# Altium footprint library PcbLib1.PcbLib: 218 footprints (part 11 of 14)
Each footprint in its own frame and in the unit in brackets; x right, y up, seen from the top. Pads: shape width x height; smd on the part's side, far side on the other; paste and mask are expansions set on the pad; w line width, h text height; cw(c..) or ccw(c..) is an arc to the next point about the centre after c.
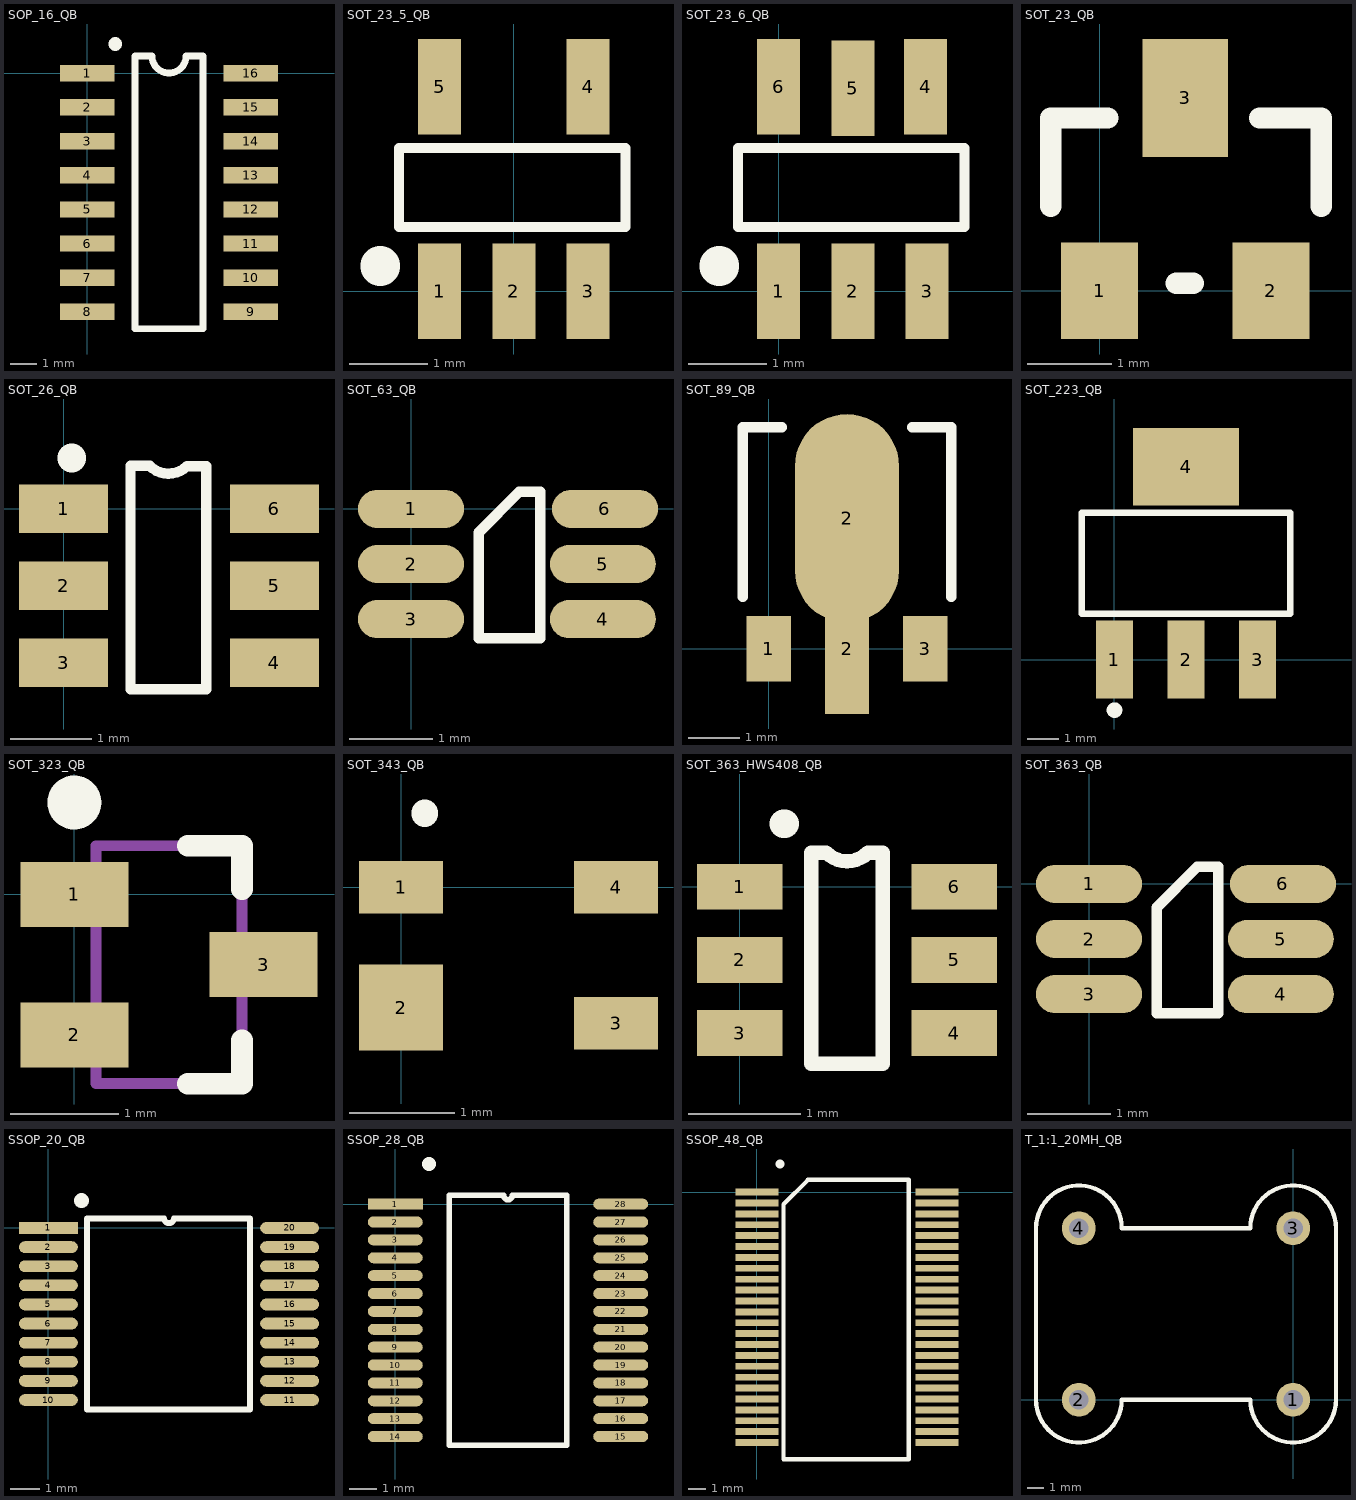
[diagram p10: the footprints below, top view; thin cyan lines are the x and y axes]

## SOP_16_QB [mil]
height 68.9
pads (16):
  rect 80x24 smd: 1(0,0) 2(0,-50) 3(0,-100) 4(0,-150) 5(0,-200) 6(0,-250) 7(0,-300) 8(0,-350) 9(240,-350) 10(240,-300) 11(240,-250) 12(240,-200) 13(240,-150) 14(240,-100) 15(240,-50) 16(240,0)
Top Overlay:
  lines w10: 70,-375 170,-375 170,25 145,25 cw(c120,25) 95,25 70,25 70,-375
  lines w19.68: 40.94,42.52 40.94,42.91
3D body: height 68.9, standoff 3.94, extent 32.48,-372.64 202.48,22.36
3D body: height 7.87, standoff 0, extent -25.47,-9.84 9.81,10.24
3D body: height 43.31, standoff 37.01, extent -0.23,-9.84 32.4,10.24
3D body: height 37.4, standoff 0, extent -0.23,-9.84 9.81,10.24
3D body: height 7.87, standoff 0, extent -25.35,-59.37 9.93,-39.29
3D body: height 43.31, standoff 37.01, extent -0.11,-59.37 32.52,-39.29
3D body: height 37.4, standoff 0, extent -0.11,-59.37 9.93,-39.29
3D body: height 7.87, standoff 0, extent -25.35,-109.76 9.93,-89.68
3D body: height 43.31, standoff 37.01, extent -0.11,-109.76 32.52,-89.68
3D body: height 37.4, standoff 0, extent -0.11,-109.76 9.93,-89.68
3D body: height 7.87, standoff 0, extent -25.39,-159.76 9.89,-139.68
3D body: height 43.31, standoff 37.01, extent -0.15,-159.76 32.48,-139.68
3D body: height 37.4, standoff 0, extent -0.15,-159.76 9.89,-139.68
3D body: height 7.87, standoff 0, extent -25.43,-209.53 9.85,-189.45
3D body: height 43.31, standoff 37.01, extent -0.19,-209.53 32.44,-189.45
3D body: height 37.4, standoff 0, extent -0.19,-209.53 9.85,-189.45
3D body: height 7.87, standoff 0, extent -25.35,-259.8 9.93,-239.72
3D body: height 43.31, standoff 37.01, extent -0.11,-259.8 32.52,-239.72
3D body: height 37.4, standoff 0, extent -0.11,-259.8 9.93,-239.72
3D body: height 7.87, standoff 0, extent -25.35,-309.88 9.93,-289.8
3D body: height 43.31, standoff 37.01, extent -0.11,-309.88 32.52,-289.8
3D body: height 37.4, standoff 0, extent -0.11,-309.88 9.93,-289.8
3D body: height 7.87, standoff 0, extent -25.43,-360.04 9.85,-339.96
3D body: height 43.31, standoff 37.01, extent -0.19,-360.04 32.44,-339.96
3D body: height 37.4, standoff 0, extent -0.19,-360.04 9.85,-339.96
3D body: height 7.87, standoff 0, extent 225.03,-9.65 260.31,10.43
3D body: height 43.31, standoff 37.01, extent 202.44,-9.65 235.07,10.43
3D body: height 37.4, standoff 0, extent 225.03,-9.65 235.07,10.43
3D body: height 7.87, standoff 0, extent 224.91,-59.69 260.2,-39.61
3D body: height 43.31, standoff 37.01, extent 202.32,-59.69 234.95,-39.61
3D body: height 37.4, standoff 0, extent 224.91,-59.69 234.95,-39.61
3D body: height 7.87, standoff 0, extent 224.99,-109.69 260.28,-89.61
3D body: height 43.31, standoff 37.01, extent 202.4,-109.69 235.03,-89.61
3D body: height 37.4, standoff 0, extent 224.99,-109.69 235.03,-89.61
3D body: height 7.87, standoff 0, extent 225.11,-159.72 260.39,-139.65
3D body: height 43.31, standoff 37.01, extent 202.52,-159.72 235.15,-139.65
3D body: height 37.4, standoff 0, extent 225.11,-159.72 235.15,-139.65
3D body: height 7.87, standoff 0, extent 225.11,-210 260.39,-189.92
3D body: height 43.31, standoff 37.01, extent 202.52,-210 235.15,-189.92
3D body: height 37.4, standoff 0, extent 225.11,-210 235.15,-189.92
3D body: height 7.87, standoff 0, extent 225.07,-259.8 260.35,-239.72
3D body: height 43.31, standoff 37.01, extent 202.48,-259.8 235.11,-239.72
3D body: height 37.4, standoff 0, extent 225.07,-259.8 235.11,-239.72
3D body: height 7.87, standoff 0, extent 224.91,-309.88 260.2,-289.8
3D body: height 43.31, standoff 37.01, extent 202.32,-309.88 234.95,-289.8
3D body: height 37.4, standoff 0, extent 224.91,-309.88 234.95,-289.8
3D body: height 7.87, standoff 0, extent 225.11,-360.12 260.39,-340.04
3D body: height 43.31, standoff 37.01, extent 202.52,-360.12 235.15,-340.04
3D body: height 37.4, standoff 0, extent 225.11,-360.12 235.15,-340.04

## SOT_23_5_QB [mm]
pads (5):
  rect 0.55x1.22 smd: 1(-0.95,0) 2(0,0) 3(0.95,0) 4(0.95,2.62) 5(-0.95,2.62)
Top Overlay:
  lines w0.127: -1.47,1.825 -1.47,0.825 1.43,0.825 1.43,1.825 ; -1.47,1.835 1.43,1.835
  lines w0.5: -1.71,0.32 -1.71,0.33
3D body: height 1, standoff 0.1, extent -1.47,0.55 1.43,2.05
3D body: height 0.5, standoff 0, extent -1.148,0.225 -0.773,0.4
3D body: height 0.1, standoff 0, extent -1.148,0.1 -0.773,0.4
3D body: height 0.6, standoff 0.48, extent -1.148,0.225 -0.773,0.55
3D body: height 0.5, standoff 0, extent -0.194,0.225 0.181,0.4
3D body: height 0.1, standoff 0, extent -0.194,0.1 0.181,0.4
3D body: height 0.6, standoff 0.48, extent -0.194,0.225 0.181,0.55
3D body: height 0.5, standoff 0, extent 0.78,0.225 1.155,0.4
3D body: height 0.1, standoff 0, extent 0.78,0.1 1.155,0.4
3D body: height 0.6, standoff 0.48, extent 0.78,0.225 1.155,0.55
3D body: height 0.5, standoff 0, extent -1.152,2.199 -0.777,2.374
3D body: height 0.1, standoff 0, extent -1.152,2.199 -0.777,2.499
3D body: height 0.6, standoff 0.48, extent -1.152,2.049 -0.777,2.374
3D body: height 0.5, standoff 0, extent 0.749,2.199 1.124,2.374
3D body: height 0.1, standoff 0, extent 0.749,2.199 1.124,2.499
3D body: height 0.6, standoff 0.48, extent 0.749,2.049 1.124,2.374

## SOT_23_6_QB [mm]
height 1
pads (6):
  rect 0.55x1.22 smd: 1(0,0) 2(0.95,0) 3(1.9,0) 4(1.88,2.62) 5(0.95,2.6) 6(0,2.62)
Top Overlay:
  lines w0.127: -0.52,1.825 -0.52,0.825 2.38,0.825 2.38,1.825 ; -0.52,1.835 2.38,1.835
  lines w0.5: -0.76,0.32 -0.76,0.33
3D body: height 1, standoff 0.1, extent -0.52,0.55 2.38,2.05
3D body: height 0.6, standoff 0.48, extent 1.699,2.049 2.074,2.374
3D body: height 0.1, standoff 0, extent 1.699,2.199 2.074,2.499
3D body: height 0.5, standoff 0, extent 1.699,2.199 2.074,2.374
3D body: height 0.6, standoff 0.48, extent -0.202,2.049 0.173,2.374
3D body: height 0.1, standoff 0, extent -0.202,2.199 0.173,2.499
3D body: height 0.5, standoff 0, extent -0.202,2.199 0.173,2.374
3D body: height 0.6, standoff 0.48, extent 1.73,0.225 2.105,0.55
3D body: height 0.1, standoff 0, extent 1.73,0.1 2.105,0.4
3D body: height 0.5, standoff 0, extent 1.73,0.225 2.105,0.4
3D body: height 0.6, standoff 0.48, extent 0.756,0.225 1.131,0.55
3D body: height 0.1, standoff 0, extent 0.756,0.1 1.131,0.4
3D body: height 0.5, standoff 0, extent 0.756,0.225 1.131,0.4
3D body: height 0.6, standoff 0.48, extent -0.198,0.225 0.177,0.55
3D body: height 0.1, standoff 0, extent -0.198,0.1 0.177,0.4
3D body: height 0.5, standoff 0, extent -0.198,0.225 0.177,0.4
3D body: height 0.5, standoff 0, extent 0.748,2.179 1.123,2.354
3D body: height 0.1, standoff 0, extent 0.748,2.179 1.123,2.479
3D body: height 0.6, standoff 0.48, extent 0.748,2.029 1.123,2.354

## SOT_23_QB [mil]
pads (3):
  rect 36x45 smd: 1(0,0) 2(80,0)
  rect 40x55 smd: 3(40,90)
Top Overlay:
  lines w10: -22.83,39.37 -22.83,80.63 3.94,80.63 ; 35.83,3.54 43.7,3.54 ; 74.8,80.63 103.54,80.63 103.54,39.37
3D body: height 15.75, standoff 0, extent 73.03,-9.84 88.39,11.02
3D body: height 15.75, standoff 0, extent 31.89,75.98 47.24,96.85
3D body: height 15.75, standoff 0, extent -8.27,-9.84 7.09,11.02
3D body: height 43.31, standoff 0, extent -17.87,10.98 97.48,75.98

## SOT_26_QB [mm]
height 1.45
pads (6):
  rect 1.1x0.6 smd: 1(0,0) 2(0,-0.95) 3(0,-1.9) 4(2.6,-1.9) 5(2.6,-0.95) 6(2.6,0)
Top Overlay:
  lines w0.127: 0.826,-2.228 0.826,0.531 1.061,0.531 ccw(c1.295,0.759) 1.523,0.525 1.758,0.525 1.758,-2.228 0.826,-2.228
  lines w0.35: 0.1,0.623 0.1,0.63
3D body: height 0.08, standoff 0, extent 2.223,-2.058 2.573,-1.758
3D body: height 0.6, standoff 0, extent 2.223,-2.058 2.373,-1.758
3D body: height 0.7, standoff 0.59, extent 2.048,-2.058 2.373,-1.758
3D body: height 0.08, standoff 0, extent 2.225,-1.105 2.575,-0.805
3D body: height 0.6, standoff 0, extent 2.225,-1.105 2.375,-0.805
3D body: height 0.7, standoff 0.59, extent 2.05,-1.105 2.375,-0.805
3D body: height 0.08, standoff 0, extent 2.226,-0.145 2.576,0.155
3D body: height 0.6, standoff 0, extent 2.226,-0.145 2.376,0.155
3D body: height 0.7, standoff 0.59, extent 2.051,-0.145 2.376,0.155
3D body: height 0.08, standoff 0, extent 0.024,-2.049 0.374,-1.749
3D body: height 0.6, standoff 0, extent 0.224,-2.049 0.374,-1.749
3D body: height 0.7, standoff 0.59, extent 0.224,-2.049 0.549,-1.748
3D body: height 0.08, standoff 0, extent 0.026,-1.091 0.376,-0.791
3D body: height 0.6, standoff 0, extent 0.226,-1.091 0.376,-0.791
3D body: height 0.7, standoff 0.59, extent 0.226,-1.091 0.551,-0.79
3D body: height 0.08, standoff 0, extent 0.024,-0.133 0.374,0.167
3D body: height 0.6, standoff 0, extent 0.224,-0.133 0.374,0.167
3D body: height 0.7, standoff 0.59, extent 0.224,-0.133 0.549,0.168
3D body: height 1.4, standoff 0.1, extent 0.55,-2.375 2.05,0.625

## SOT_63_QB [mil]
pads (6):
  oval 50x18 smd: 1(0,0) 2(0,-26) 3(0,-52) 4(90.43,-52) 5(90.43,-26) 6(91.43,0)
Top Overlay:
  lines w5: 31.87,-61.05 31.87,-11.13 51,8 61,8 61,-61.05 31.87,-61.05
3D body: height 11.81, standoff 0, extent 6.6,-5.9 31.4,5.91
3D body: height 11.81, standoff 0, extent 7.06,-32.43 31.87,-20.62
3D body: height 11.81, standoff 0, extent 6.6,-57.9 31.4,-46.09
3D body: height 11.81, standoff 0, extent 61,-58 85.8,-46.19
3D body: height 11.81, standoff 0, extent 61,-5.81 85.8,6
3D body: height 11.81, standoff 0, extent 61,-32.43 85.8,-20.62
3D body: height 39.37, standoff 0, extent 26.75,-67.87 66.12,14.81

## SOT_89_QB [mil]
pads (4):
  rect 34x50 smd: 1(0,0) 3(120,0)
  rect 34x100 smd: 2(60,0)
  oval 80x160 smd: 2(60,100)
Top Overlay:
  lines w8: -20,40 -20,170 10,170 ; 110,170 140,170 140,40
3D body: height 23.62, standoff 0, extent 15,130 105,175
3D body: height 62.99, standoff 0, extent -28.54,39.37 148.62,132.87
3D body: height 16.93, standoff 0, extent 109.25,-11.81 132.87,39.37
3D body: height 16.93, standoff 0, extent 48.23,-11.81 71.85,39.37
3D body: height 16.93, standoff 0, extent -13.78,-11.81 9.84,39.37

## SOT_223_QB [mm]
height 65
pads (4):
  rect 1.2x2.5 smd: 1(0,0) 2(2.3,0) 3(4.6,0)
  rect 3.4x2.5 smd: 4(2.3,6.2)
Top Overlay:
  circle w0.25: c0,-1.625 r0.125
  lines w0.2: -1.05,1.475 5.65,1.475 5.65,4.725 -1.05,4.725 -1.05,1.475
3D body: height 1.63, standoff 0, extent -0.95,1.55 5.56,4.62
3D body: height 0.6, standoff 0, extent 1.98,0.12 2.63,1.58
3D body: height 0.6, standoff 0, extent -0.32,0.1 0.33,1.56
3D body: height 0.6, standoff 0, extent 4.27,0.11 4.92,1.57
3D body: height 0.6, standoff 0, extent 1.07,4.6 3.43,6.06

## SOT_323_QB [mm]
pads (3):
  rect 1x0.6 smd: 1(0,0) 2(0,-1.3) 3(1.75,-0.65)
Top Overlay:
  circle w0.25: c0,0.85 r0.125
  lines w0.2: 1.05,-1.75 1.55,-1.75 1.55,-1.35 ; 1.05,0.45 1.55,0.45 1.55,0.05
Mechanical 13:
  lines w0.1: 0.2,-1.75 1.55,-1.75 1.55,0.45 0.2,0.45 0.2,-1.75
3D body: height 0.2, standoff 0, extent 1.358,-0.853 2.069,-0.447
3D body: height 0.2, standoff 0, extent -0.344,-1.488 0.367,-1.082
3D body: height 0.2, standoff 0, extent -0.319,-0.218 0.392,0.188
3D body: height 1.1, standoff 0, extent 0.2,-1.75 1.55,0.45

## SOT_343_QB [mm]
height 1
pads (4):
  rect 0.8x0.5 smd: 1(0,0) 3(2.05,-1.3) 4(2.05,0)
  rect 0.8x0.82 smd: 2(0,-1.15)
Top Overlay:
  lines w0.254: 0.225,0.7 0.225,0.71
3D body: height 1, standoff -0.05, extent 0.4,-1.675 1.65,0.375
3D body: height 0.45, standoff 0, extent 1.8,-0.15 1.9,0.15
3D body: height 0.6, standoff 0.45, extent 1.65,-0.15 1.9,0.15
3D body: height 0.12, standoff 0, extent 1.8,-0.15 2.05,0.15
3D body: height 0.12, standoff 0, extent 0,-0.15 0.25,0.15
3D body: height 0.45, standoff 0, extent 0.15,-0.15 0.25,0.15
3D body: height 0.6, standoff 0.45, extent 0.15,-0.15 0.4,0.15
3D body: height 0.12, standoff 0, extent 1.8,-1.45 2.05,-1.15
3D body: height 0.6, standoff 0.45, extent 1.65,-1.45 1.9,-1.15
3D body: height 0.45, standoff 0, extent 1.8,-1.45 1.9,-1.15
3D body: height 0.12, standoff 0, extent 0,-1.45 0.25,-1.15
3D body: height 0.45, standoff 0, extent 0.15,-1.45 0.25,-1.15
3D body: height 0.6, standoff 0.45, extent 0.15,-1.45 0.4,-1.15
3D body: height 0.12, standoff 0, extent 0,-1.15 0.25,-0.85
3D body: height 0.45, standoff 0, extent 0.15,-1.15 0.25,-0.85
3D body: height 0.6, standoff 0.45, extent 0.15,-1.15 0.4,-0.85

## SOT_363_HWS408_QB [mil]
height 47.24
pads (6):
  rect 30x16 smd: 1(0,0) 2(0,-25.59) 3(0,-51.18) 4(75,-51.18) 5(75,-25.59) 6(75,0)
Top Overlay:
  lines w5: 30.17,11.99 25,11.99 25,-61.93 50,-61.93 50,11.99 44.83,11.99 cw(c37.51,19.32) 30.18,12
  lines w10: 15.35,22.05 15.75,22.05
3D body: height 3.94, standoff 0, extent 61.89,-57.33 78.62,-44.73
3D body: height 23.62, standoff 0, extent 61.89,-57.33 65.72,-44.73
3D body: height 27.56, standoff 23.23, extent 58.98,-57.33 65.72,-44.69
3D body: height 3.94, standoff 0, extent 61.97,-31.93 78.7,-19.33
3D body: height 23.62, standoff 0, extent 61.97,-31.93 65.8,-19.33
3D body: height 27.56, standoff 23.23, extent 59.06,-31.93 65.8,-19.29
3D body: height 3.94, standoff 0, extent 61.89,-6.11 78.62,6.49
3D body: height 23.62, standoff 0, extent 61.89,-6.11 65.72,6.49
3D body: height 27.56, standoff 23.23, extent 58.98,-6.11 65.72,6.54
3D body: height 27.56, standoff 23.23, extent 9.08,-57.48 15.83,-44.84
3D body: height 23.62, standoff 0, extent 9.08,-57.44 12.91,-44.84
3D body: height 3.94, standoff 0, extent -3.82,-57.44 12.91,-44.84
3D body: height 27.56, standoff 23.23, extent 9,-31.89 15.75,-19.25
3D body: height 23.62, standoff 0, extent 9,-31.85 12.83,-19.25
3D body: height 3.94, standoff 0, extent -3.9,-31.85 12.83,-19.25
3D body: height 3.94, standoff 0, extent -3.78,-6.14 12.95,6.46
3D body: height 23.62, standoff 0, extent 9.12,-6.14 12.95,6.46
3D body: height 27.56, standoff 23.23, extent 9.12,-6.18 15.87,6.46
3D body: height 39.37, standoff 0, extent 15.75,-66.93 59.06,15.75

## SOT_363_QB [mil]
pads (6):
  oval 50x18 smd: 1(0,0) 2(0,-26) 3(0,-52) 4(90.43,-52) 5(90.43,-26) 6(91.43,0)
Top Overlay:
  lines w5: 31.87,-61.05 61,-61.05 61,8 51,8 31.87,-11.13 31.87,-61.05
3D body: height 39.37, standoff 0, extent 26.75,-67.87 66.12,14.81
3D body: height 11.81, standoff 0, extent 61,-32.43 85.8,-20.62
3D body: height 11.81, standoff 0, extent 61,-5.81 85.8,6
3D body: height 11.81, standoff 0, extent 61,-58 85.8,-46.19
3D body: height 11.81, standoff 0, extent 6.6,-57.9 31.4,-46.09
3D body: height 11.81, standoff 0, extent 7.06,-32.43 31.87,-20.62
3D body: height 11.81, standoff 0, extent 6.6,-5.9 31.4,5.91

## SSOP_20_QB [mm]
pads (20):
  rect 2x0.4 smd: 1(0,0)
  oval 2x0.4 smd: 2(0,-0.65) 3(0,-1.3) 4(0,-1.95) 5(0,-2.6) 6(0,-3.25) 7(0,-3.9) 8(0,-4.55) 9(0,-5.2) 10(0,-5.85) 11(8.2,-5.85) 12(8.2,-5.2) 13(8.2,-4.55) 14(8.2,-3.9) 15(8.2,-3.25) 16(8.2,-2.6) 17(8.2,-1.95) 18(8.2,-1.3) 19(8.2,-0.65) 20(8.2,0)
Top Overlay:
  lines w0.2: 1.306,-6.175 1.306,0.325 3.938,0.325 ccw(c4.1,0.325) 4.262,0.325 6.858,0.325 6.858,-6.175 1.306,-6.175
  lines w0.5: 1.125,0.925 1.125,0.935
3D body: height 0.25, standoff 0, extent 7.239,-0.191 8.509,0.19
3D body: height 1, standoff 0, extent 7.239,-0.191 7.366,0.19
3D body: height 1.25, standoff 1, extent 6.858,-0.191 7.366,0.19
3D body: height 0.25, standoff 0, extent 7.239,-0.826 8.509,-0.445
3D body: height 1, standoff 0, extent 7.239,-0.826 7.366,-0.445
3D body: height 1.25, standoff 1, extent 6.858,-0.826 7.366,-0.445
3D body: height 0.25, standoff 0, extent 7.239,-1.461 8.509,-1.08
3D body: height 1, standoff 0, extent 7.239,-1.461 7.366,-1.08
3D body: height 1.25, standoff 1, extent 6.858,-1.461 7.366,-1.08
3D body: height 0.25, standoff 0, extent 7.239,-2.096 8.509,-1.715
3D body: height 1, standoff 0, extent 7.239,-2.096 7.366,-1.715
3D body: height 1.25, standoff 1, extent 6.858,-2.096 7.366,-1.715
3D body: height 0.25, standoff 0, extent 7.239,-2.731 8.509,-2.35
3D body: height 1, standoff 0, extent 7.239,-2.731 7.366,-2.35
3D body: height 1.25, standoff 1, extent 6.858,-2.731 7.366,-2.35
3D body: height 0.25, standoff 0, extent 7.239,-3.493 8.509,-3.112
3D body: height 1, standoff 0, extent 7.239,-3.493 7.366,-3.112
3D body: height 1.25, standoff 1, extent 6.858,-3.493 7.366,-3.112
3D body: height 0.25, standoff 0, extent 7.239,-4.128 8.509,-3.747
3D body: height 1, standoff 0, extent 7.239,-4.128 7.366,-3.747
3D body: height 1.25, standoff 1, extent 6.858,-4.128 7.366,-3.747
3D body: height 0.25, standoff 0, extent 7.239,-4.763 8.509,-4.382
3D body: height 1, standoff 0, extent 7.239,-4.763 7.366,-4.382
3D body: height 1.25, standoff 1, extent 6.858,-4.763 7.366,-4.382
3D body: height 0.25, standoff 0, extent 7.239,-5.398 8.509,-5.017
3D body: height 1, standoff 0, extent 7.239,-5.398 7.366,-5.017
3D body: height 1.25, standoff 1, extent 6.858,-5.398 7.366,-5.017
3D body: height 0.25, standoff 0, extent 7.239,-6.033 8.509,-5.652
3D body: height 1, standoff 0, extent 7.239,-6.033 7.366,-5.652
3D body: height 1.25, standoff 1, extent 6.858,-6.033 7.366,-5.652
3D body: height 0.25, standoff 0, extent -0.381,-6.032 0.889,-5.651
3D body: height 1, standoff 0, extent 0.762,-6.032 0.889,-5.651
3D body: height 1.25, standoff 1, extent 0.762,-6.032 1.27,-5.651
3D body: height 0.25, standoff 0, extent -0.381,-5.397 0.889,-5.016
3D body: height 1, standoff 0, extent 0.762,-5.397 0.889,-5.016
3D body: height 1.25, standoff 1, extent 0.762,-5.397 1.27,-5.016
3D body: height 0.25, standoff 0, extent -0.381,-4.762 0.889,-4.381
3D body: height 1, standoff 0, extent 0.762,-4.762 0.889,-4.381
3D body: height 1.25, standoff 1, extent 0.762,-4.762 1.27,-4.381
3D body: height 0.25, standoff 0, extent -0.381,-4.127 0.889,-3.746
3D body: height 1, standoff 0, extent 0.762,-4.127 0.889,-3.746
3D body: height 1.25, standoff 1, extent 0.762,-4.127 1.27,-3.746
3D body: height 0.25, standoff 0, extent -0.381,-3.492 0.889,-3.111
3D body: height 1, standoff 0, extent 0.762,-3.492 0.889,-3.111
3D body: height 1.25, standoff 1, extent 0.762,-3.492 1.27,-3.111
3D body: height 0.25, standoff 0, extent -0.381,-2.73 0.889,-2.349
3D body: height 1, standoff 0, extent 0.762,-2.73 0.889,-2.349
3D body: height 1.25, standoff 1, extent 0.762,-2.73 1.27,-2.349
3D body: height 0.25, standoff 0, extent -0.381,-2.095 0.889,-1.714
3D body: height 1, standoff 0, extent 0.762,-2.095 0.889,-1.714
3D body: height 1.25, standoff 1, extent 0.762,-2.095 1.27,-1.715
3D body: height 0.25, standoff 0, extent -0.381,-1.46 0.889,-1.079
3D body: height 1, standoff 0, extent 0.762,-1.46 0.889,-1.079
3D body: height 1.25, standoff 1, extent 0.762,-1.46 1.27,-1.08
3D body: height 0.25, standoff 0, extent -0.381,-0.826 0.889,-0.445
3D body: height 1, standoff 0, extent 0.762,-0.826 0.889,-0.445
3D body: height 1.25, standoff 1, extent 0.762,-0.825 1.27,-0.445
3D body: height 0.25, standoff 0, extent -0.381,-0.191 0.889,0.191
3D body: height 1, standoff 0, extent 0.762,-0.191 0.889,0.191
3D body: height 1.25, standoff 1, extent 0.762,-0.19 1.27,0.19
3D body: height 2, standoff 0.05, extent 1.306,-6.354 6.894,0.504

## SSOP_28_QB [mm]
pads (28):
  rect 2x0.4 smd: 1(0,0)
  oval 2x0.4 smd: 2(0,-0.65) 3(0,-1.3) 4(0,-1.95) 5(0,-2.6) 6(0,-3.25) 7(0,-3.9) 8(0,-4.55) 9(0,-5.2) 10(0,-5.85) 11(0,-6.5) 12(0,-7.15) 13(0,-7.8) 14(0,-8.45) 15(8.2,-8.45) 16(8.2,-7.8) 17(8.2,-7.15) 18(8.2,-6.5) 19(8.2,-5.85) 20(8.2,-5.2) 21(8.2,-4.55) 22(8.2,-3.9) 23(8.2,-3.25) 24(8.2,-2.6) 25(8.2,-1.95) 26(8.2,-1.3) 27(8.2,-0.65) 28(8.2,0)
Top Overlay:
  lines w0.2: 1.96,-8.775 1.96,0.325 3.938,0.325 ccw(c4.1,0.325) 4.262,0.325 6.24,0.325 6.24,-8.775 1.96,-8.775
  lines w0.5: 1.225,1.45 1.225,1.46
3D body: height 0.8, standoff 0, extent 0,-0.19 1.27,0.191
3D body: height 0.8, standoff 0, extent 0,-0.825 1.27,-0.444
3D body: height 0.8, standoff 0, extent 0,-1.46 1.27,-1.079
3D body: height 0.8, standoff 0, extent 0,-2.095 1.27,-1.714
3D body: height 0.8, standoff 0, extent 0,-2.73 1.27,-2.349
3D body: height 0.8, standoff 0, extent 0,-3.365 1.27,-2.984
3D body: height 0.8, standoff 0, extent 0,-4 1.27,-3.619
3D body: height 0.8, standoff 0, extent 0,-4.635 1.27,-4.254
3D body: height 0.8, standoff 0, extent 0,-5.397 1.27,-5.016
3D body: height 0.8, standoff 0, extent 0,-6.032 1.27,-5.651
3D body: height 0.8, standoff 0, extent 0,-6.667 1.27,-6.286
3D body: height 0.8, standoff 0, extent 0,-7.302 1.27,-6.921
3D body: height 0.8, standoff 0, extent 0,-7.937 1.27,-7.556
3D body: height 0.8, standoff 0, extent 0,-8.572 1.27,-8.191
3D body: height 0.8, standoff 0, extent 6.858,-8.572 8.128,-8.191
3D body: height 0.8, standoff 0, extent 6.858,-7.937 8.128,-7.556
3D body: height 0.8, standoff 0, extent 6.858,-7.302 8.128,-6.921
3D body: height 0.8, standoff 0, extent 6.858,-6.667 8.128,-6.286
3D body: height 0.8, standoff 0, extent 6.858,-6.032 8.128,-5.651
3D body: height 0.8, standoff 0, extent 6.858,-5.397 8.128,-5.016
3D body: height 0.8, standoff 0, extent 6.858,-4.762 8.128,-4.381
3D body: height 0.8, standoff 0, extent 6.858,-4.127 8.128,-3.746
3D body: height 0.8, standoff 0, extent 6.858,-3.365 8.128,-2.984
3D body: height 0.8, standoff 0, extent 6.858,-2.73 8.128,-2.349
3D body: height 0.8, standoff 0, extent 6.858,-2.095 8.128,-1.714
3D body: height 0.8, standoff 0, extent 6.858,-1.46 8.128,-1.079
3D body: height 0.8, standoff 0, extent 6.858,-0.825 8.128,-0.444
3D body: height 0.8, standoff 0, extent 6.858,-0.19 8.128,0.191
3D body: height 2, standoff 0.05, extent 1.27,-9.271 6.858,0.889

## SSOP_48_QB [mm]
pads (48):
  rect 2.5x0.4 smd: 1(0,0) 2(0,-0.634) 3(0,-1.268) 4(0,-1.902) 5(0,-2.536) 6(0,-3.169) 7(0,-3.803) 8(0,-4.437) 9(0,-5.071) 10(0,-5.705) 11(0,-6.339) 12(0,-6.973) 13(0,-7.607) 14(0,-8.241) 15(0,-8.875) 16(0,-9.508) 17(0,-10.142) 18(0,-10.776) 19(0,-11.41) 20(0,-12.044) 21(0,-12.678) 22(0,-13.312) 23(0,-13.946) 24(0,-14.58) 25(10.5,-14.58) 26(10.5,-13.946) 27(10.5,-13.312) 28(10.5,-12.678) 29(10.5,-12.044) 30(10.5,-11.41) 31(10.5,-10.776) 32(10.5,-10.142) 33(10.5,-9.508) 34(10.5,-8.875) 35(10.5,-8.241) 36(10.5,-7.607) 37(10.5,-6.973) 38(10.5,-6.339) 39(10.5,-5.705) 40(10.5,-5.071) 41(10.5,-4.437) 42(10.5,-3.803) 43(10.5,-3.169) 44(10.5,-2.536) 45(10.5,-1.902) 46(10.5,-1.268) 47(10.5,-0.634) 48(10.5,0)
Top Overlay:
  lines w0.254: 1.549,-15.545 1.549,-0.711 2.972,0.711 8.839,0.711 8.839,-15.545 1.549,-15.545
  lines w0.5: 1.35,1.625 1.35,1.635
3D body: height 1, standoff 0, extent 8.827,-0.159 10.478,0.159
3D body: height 1, standoff 0, extent 8.827,-0.794 10.478,-0.476
3D body: height 1, standoff 0, extent 8.827,-1.429 10.478,-1.111
3D body: height 1, standoff 0, extent 8.827,-2.064 10.478,-1.746
3D body: height 1, standoff 0, extent 8.827,-2.699 10.478,-2.381
3D body: height 1, standoff 0, extent 8.827,-3.334 10.478,-3.016
3D body: height 1, standoff 0, extent 8.827,-3.969 10.478,-3.651
3D body: height 1, standoff 0, extent 8.827,-4.604 10.478,-4.286
3D body: height 1, standoff 0, extent 8.827,-5.239 10.478,-4.921
3D body: height 1, standoff 0, extent 8.827,-5.874 10.478,-5.556
3D body: height 1, standoff 0, extent 8.827,-6.509 10.478,-6.191
3D body: height 1, standoff 0, extent 8.827,-7.144 10.478,-6.826
3D body: height 1, standoff 0, extent 8.827,-7.779 10.478,-7.461
3D body: height 1, standoff 0, extent 8.827,-8.414 10.478,-8.096
3D body: height 1, standoff 0, extent 8.827,-9.049 10.478,-8.731
3D body: height 1, standoff 0, extent 8.827,-9.684 10.478,-9.366
3D body: height 1, standoff 0, extent 8.827,-10.319 10.478,-10.001
3D body: height 1, standoff 0, extent 8.827,-10.954 10.478,-10.636
3D body: height 1, standoff 0, extent 8.827,-11.589 10.478,-11.271
3D body: height 1, standoff 0, extent 8.827,-12.224 10.478,-11.906
3D body: height 1, standoff 0, extent 8.827,-12.859 10.478,-12.541
3D body: height 1, standoff 0, extent 8.827,-13.494 10.478,-13.176
3D body: height 1, standoff 0, extent 8.827,-14.129 10.478,-13.811
3D body: height 1, standoff 0, extent 8.827,-14.764 10.478,-14.446
3D body: height 1, standoff 0, extent -0.063,-14.764 1.588,-14.446
3D body: height 1, standoff 0, extent -0.063,-14.129 1.588,-13.811
3D body: height 1, standoff 0, extent -0.063,-13.494 1.588,-13.176
3D body: height 1, standoff 0, extent -0.063,-12.859 1.588,-12.541
3D body: height 1, standoff 0, extent -0.063,-12.224 1.588,-11.906
3D body: height 1, standoff 0, extent -0.063,-11.589 1.588,-11.271
3D body: height 1, standoff 0, extent -0.063,-10.954 1.588,-10.636
3D body: height 1, standoff 0, extent -0.063,-10.319 1.588,-10.001
3D body: height 1, standoff 0, extent -0.063,-9.684 1.588,-9.366
3D body: height 1, standoff 0, extent -0.063,-9.049 1.588,-8.731
3D body: height 1, standoff 0, extent -0.063,-8.414 1.588,-8.096
3D body: height 1, standoff 0, extent -0.063,-7.779 1.588,-7.461
3D body: height 1, standoff 0, extent -0.063,-7.144 1.588,-6.826
3D body: height 1, standoff 0, extent -0.063,-6.509 1.588,-6.191
3D body: height 1, standoff 0, extent -0.063,-5.874 1.588,-5.556
3D body: height 1, standoff 0, extent -0.063,-5.239 1.588,-4.921
3D body: height 1, standoff 0, extent -0.063,-4.604 1.588,-4.286
3D body: height 1, standoff 0, extent -0.063,-3.969 1.588,-3.651
3D body: height 1, standoff 0, extent -0.063,-3.334 1.588,-3.016
3D body: height 1, standoff 0, extent -0.063,-2.699 1.588,-2.381
3D body: height 1, standoff 0, extent -0.063,-2.064 1.588,-1.746
3D body: height 1, standoff 0, extent -0.063,-1.429 1.588,-1.111
3D body: height 1, standoff 0, extent -0.063,-0.794 1.588,-0.476
3D body: height 1, standoff 0, extent -0.063,-0.159 1.588,0.159
3D body: height 2.79, standoff 0.2, extent 1.521,-15.494 8.954,0.762

## T_1:1_20MH_QB [mm]
pads (4):
  round 2 hole 1.143: 1(0,0) 2(-12.7,0) 3(0,10.16) 4(-12.7,10.16)
Top Overlay:
  lines w0.254: -15.24,0 ccw(c-12.7,0) -10.16,0 -2.54,0 ccw(c0,0) 2.54,0 2.54,10.16 ccw(c0,10.16) -2.54,10.16 -10.16,10.16 ccw(c-12.7,10.16) -15.24,10.16 -15.24,0
3D body: height 20, standoff 0, extent -15.239,-2.539 2.539,12.699